# EAGLE library part LTC6820 (library FSAE Electric)
isoSPI Isolated Communications Interface
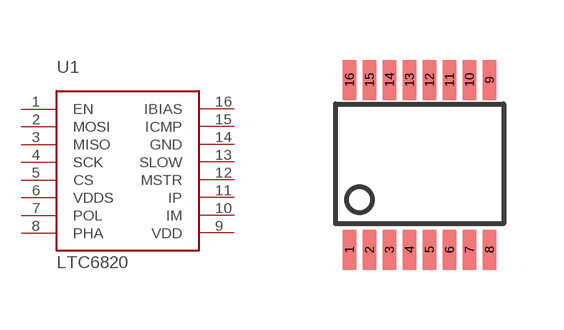
[diagram p66: symbol with the pads of MSOP-16; footprint MSOP-16]

Designator prefix U1

## LTC6820 (PARTNO: LTC6820IMS#PBF)  [MSOP-16]
1  EN
2  MOSI
3  MISO
4  SCK
5  CS
6  VDDS
7  POL
8  PHA
9  VDD
10  IM
11  IP
12  MSTR
13  SLOW
14  GND
15  ICMP
16  IBIAS

## Footprint MSOP-16 (pad centres in mm)
smd 0.33 x 1: 1 -1.75,-2.1; 2 -1.25,-2.1; 3 -0.75,-2.1; 4 -0.25,-2.1; 5 0.25,-2.1; 6 0.75,-2.1; 7 1.25,-2.1; 8 1.75,-2.1; 9 1.75,2.15; 10 1.25,2.15; 11 0.75,2.15; 12 0.25,2.15; 13 -0.25,2.15; 14 -0.75,2.15; 15 -1.25,2.15; 16 -1.75,2.15